# Altium schematic symbol library CRD25DA12N-FMC.SchLib: 111 symbols (part 1 of 4)
Pins are listed as number, name and electrical type; pins without a type are passive.

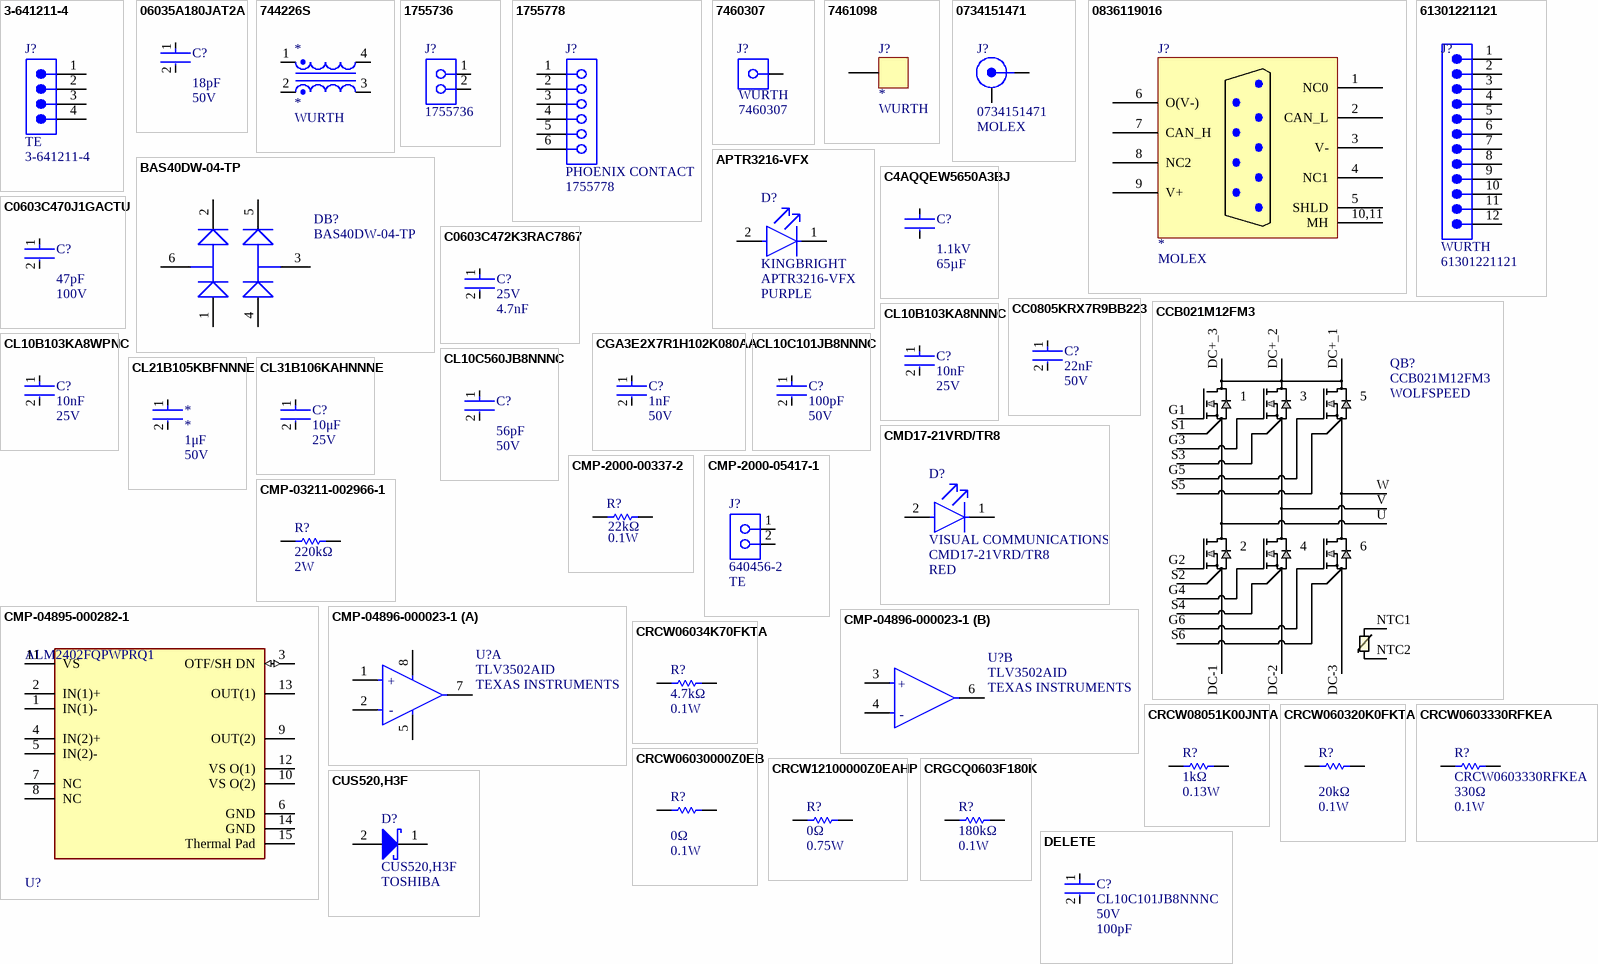
[diagram p0: symbols 3-641211-4 to DELETE]

## 3-641211-4
designator J?  Manufacturer: TE  (hidden comment: 3-641211-4)
Conn Unshrouded Header HDR 4 POS 2.54mm Solder ST Thru-Hole Package; Underplate Material: Nickel; Number of Positions: 4; Connector Type: Plug,Header,Pin; Connector System: Wire-to-Board; Contact Retention: No (Without); PCB Mount Retention: Without; Contact Current Rating: 5A; Voltage Rating (AC): 250V; Contact Resistance: 6mR; PCB Mounting Orientation: Vertical; Contact Style: Straight; Plating Thickness: 0.38um; Contact Post Length: 3.56mm; PCB Thickness: 0.063inch; Approvals: CSA; Supplier 1: Arrow Electronics; RoHS: Yes; Category: Connectors; Stock 1: 14; Pricing 1: 1=0.35860 (USD); Mount: Through Hole; Color: Natural; Housing Color: Natural; Housing Material: Polyester; Contact Plating: Gold,Tin,Matte; Contact Material: Copper Alloy; Contact Shape: Square; Min Operating Temperature: -67°C; Max Operating Temperature: 221°C; Package Quantity: 1; Number of Rows: 1; Packaging: Bulk; Termination: Solder; Number of Contacts: 4; Mating Alignment: No (Without); Mating Retention: No (Without); PCB Mount Alignment: No (Without); Sealable: No (Without); Strain Relief: No (Without); Series: MTA-100; Contact Type: Male Pin; Contact Gender: Male; Orientation: Straight; Backwall/Post Interruptions: No (Without); Shrouded: No (Without); Max Voltage Rating (AC): 250V; Current Rating: 5A; Voltage Rating: 250V; Length: 0.4inch; Height: 2.54mm; Pitch: 2.54mm; Depth: 5.08mm; Contact Mating Length: 7.49mm; Tail Length: 3.56mm; Radiation Hardening: No; Flammability Rating: UL94 V-0; RoHS Compliant: Yes; ELV: Compliant; ComponentLink1URL: https://datasheet.ciiva.com/9528/eng-ds-82056-mta-0608-9528409.pdf?src-supplier=Avnet; ComponentLink1Description: https://datasheet.ciiva.com/9528/eng-ds-82056-mta-0608-9528409.pdf?src-supplier=Avnet; ComponentLink2URL: https://datasheet.ciiva.com/728/eng-cd-641211-aa1-728545.pdf?src-supplier=Digi-Key; ComponentLink2Description: https://datasheet.ciiva.com/728/eng-cd-641211-aa1-728545.pdf?src-supplier=Digi-Key; Supplier Part Number 1: 3-641211-4; Manufacturer Part Number: 3-641211-4
footprint 3-641211-4 (Connector Header Through Hole 4 position 0.100" (2.54mm))
pins: 1, 2, 3, 4

## 06035A180JAT2A
designator C?  Capacitance: 18pF  Voltage Rating: 50V  (hidden comment: *)
CAP CER 18PF 50V C0G/NP0 0603; Manufacturer: KYOCERA AVX; Manufacturer Part Number: 06035A180JAT2A; Dielectric Material: Ceramic; Tolerance: 5%; Dielectric: C0G; Insulation Resistance: 100GR; Temperature Coefficient: 30ppm/°C; Supplier 1: Rs; RoHS: Yes; Category: Ceramic Capacitors; Stock 1: 1; Pricing 1: 4000=0.01900, 12000=0.01700 (USD); Mount: Surface Mount; Package: 0603; Number of Pins: 2; Case Code (Imperial): 0603; Case Code (Metric): 1608; Contact Plating: Tin,Matte; Min Operating Temperature: -55°C; Max Operating Temperature: 125°C; Packaging: Tape and Reel; Voltage Rating (DC): 50V; Series: -; Package Quantity: 1; Termination: SMD/SMT; Voltage: 50V; Length: 1.6mm; Width: 0.032inch; Height: 0.86mm; Thickness: 0.035inch; Depth: 0.81mm; Radiation Hardening: No; Reach SVHC Compliant: Yes; Lead Free: Lead Free; RoHS Compliant: Yes; ComponentLink1URL: https://datasheet.ciiva.com/1124/84496-1124722.pdf?src-supplier=Element14; ComponentLink1Description: https://datasheet.ciiva.com/1124/84496-1124722.pdf?src-supplier=Element14; ComponentLink2URL: https://datasheet.ciiva.com/22699/84496-22699967.pdf?src-supplier=Element14; ComponentLink2Description: https://datasheet.ciiva.com/22699/84496-22699967.pdf?src-supplier=Element14; ComponentLink3URL: https://datasheet.ciiva.com/7855/759117-7855062.pdf?src-supplier=Element14; ComponentLink3Description: https://datasheet.ciiva.com/7855/759117-7855062.pdf?src-supplier=Element14; ComponentLink4URL: https://datasheet.ciiva.com/7855/84496-7855222.pdf?src-supplier=Element14; ComponentLink4Description: https://datasheet.ciiva.com/7855/84496-7855222.pdf?src-supplier=Element14; ComponentLink5URL: https://datasheet.ciiva.com/150/ccog-150276.pdf?src-supplier=Digi-Key; ComponentLink5Description: https://datasheet.ciiva.com/150/ccog-150276.pdf?src-supplier=Digi-Key; ComponentLink6URL: https://datasheet.ciiva.com/150/ccog-150277.pdf?src-supplier=Digi-Key; ComponentLink6Description: https://datasheet.ciiva.com/150/ccog-150277.pdf?src-supplier=Digi-Key; Supplier Part Number 1: 1349617; Value: 18pF
footprint FP-C0603C-CF-IPC_B
pins: 1, 2

## 744226S
designator *  Manufacturer Print: WURTH
Common Mode Chokes Dual 10uH 920Ohm 1kHz 1.6A 80mOhm DCR SMD T/R; Manufacturer: WURTH ELECTRONIK; Manufacturer Part Number: 744226S; Tolerance: 30%; Voltage Rating: 80V; Resistance: 80mR; Impedance: 920R; Number of Lines: 2; Supplier 1: Rs; RoHS: Yes; Category: Common Mode Chokes; Stock 1: 1; Pricing 1: 1=2.59000, 25=2.28200, 100=2.10000, 250=1.94000, 500=1.81400 (USD); Mount: Surface Mount; Case/Package: SMD/SMT; Weight: 0.017672oz; Min Operating Temperature: -40°C; Max Operating Temperature: 125°C; Packaging: Tape and Reel; Package Quantity: 1; Series: WE-SL2; Termination: SMD/SMT; Current Rating: 1.6A; Inductance: 10uH; Current: 1.6A; DC Resistance (DCR): 80mR; Max DC Current: 1.6A; Test Frequency: 1kHz; Max Current Rating: 1.6A; Length: 9.2mm; Width: 6mm; Height: 0.205inch; Lead Free: Lead Free; RoHS Compliant: Yes; Reach SVHC Compliant: Yes; ComponentLink1URL: https://datasheet.ciiva.com/12378/744226s-67907-12378330.pdf?src-supplier=Mouser; ComponentLink1Description: https://datasheet.ciiva.com/12378/744226s-67907-12378330.pdf?src-supplier=Mouser; ComponentLink2URL: https://datasheet.ciiva.com/1008/744226s-1008438.pdf?src-supplier=Digi-Key; ComponentLink2Description: https://datasheet.ciiva.com/1008/744226s-1008438.pdf?src-supplier=Digi-Key; ComponentLink3URL: https://datasheet.ciiva.com/1126/1735584-1126949.pdf?src-supplier=Element14; ComponentLink3Description: https://datasheet.ciiva.com/1126/1735584-1126949.pdf?src-supplier=Element14; ComponentLink4URL: https://datasheet.ciiva.com/6868/1696373-6868167.pdf?src-supplier=Newark; ComponentLink4Description: https://datasheet.ciiva.com/6868/1696373-6868167.pdf?src-supplier=Newark; ComponentLink5URL: https://datasheet.ciiva.com/1008/744226s-1008439.pdf?src-supplier=Digi-Key; ComponentLink5Description: https://datasheet.ciiva.com/1008/744226s-1008439.pdf?src-supplier=Digi-Key; ComponentLink6URL: https://datasheet.ciiva.com/1008/744226s-1008440.pdf?src-supplier=Digi-Key; ComponentLink6Description: https://datasheet.ciiva.com/1008/744226s-1008440.pdf?src-supplier=Digi-Key; ComponentLink7URL: https://datasheet.ciiva.com/26308/744226s-eng-tds-26308764.pdf?src-supplier=Distrelec; ComponentLink7Description: https://datasheet.ciiva.com/26308/744226s-eng-tds-26308764.pdf?src-supplier=Distrelec; ComponentLink8URL: https://datasheet.ciiva.com/48691/001087362-da-01-ml-we-sl2-stromkomp-smd-line-filter-7-de-en-48691435.pdf?src-supplier=Conrad; ComponentLink8Description: https://datasheet.ciiva.com/48691/001087362-da-01-ml-we-sl2-stromkomp-smd-line-filter-7-de-en-48691435.pdf?src-supplier=Conrad; Supplier Part Number 1: 9040408
footprint WE-SL2 (SMD Inductor, 4-Leads, Body 6.3 x 9.5 mm)
pins: 1, 2, 3, 4

## 1755736
designator J?
Male Header, Pitch 5.08 mm, 1 x 2 Postion, Height 12 mm, Tail Length 3.9 mm, RoHS, Bulk; Manufacturer: Phoenix Contact; Content: 250pc(s); Pitch: 5.08mm; Industrial packaging: Yes; Number of contacts: 2; Manufacturer URL: http://www.phoenixcontact.com/; Datasheet Version: Apr-16; Datasheet URL: http://www.mouser.com/ds/2/324/ItemDetail_1755736-921028.pdf; Manufacturer part No.: 1755736; Type: MSTBVA2,5/2-G-5,08; Colour: Green; Supplier 1: Rs; Supplier Part Number 1: 1896199
footprint 1755736 (THD, 2-Leads, Body 12.16x8.6mm, Pitch 5.08mm)
pins: 1, 2

## 1755778
designator J?  Manufacturer: PHOENIX CONTACT  (hidden comment: 1755778)
TERM BLOCK HDR 6POS VERT 5.08MM; Voltage Rating: 250V; Current Rating: 12A; Number of Positions: 6; Number of Levels: 1; Voltage: 300V; Gender: Male; Connector Type: Plug; Approvals: UL,CSA,VDE,cULus,CB,EAC; Supplier 1: Rs; RoHS: Yes; Category: Terminal Blocks; Stock 1: 400; Mount: Through Hole; Contact Plating: Tin; Color: Green,Grey; Housing Color: Green; Housing Material: Polybutylene; Weight: 5.467464oz; Contact Material: Tin; Package Quantity: 50; Packaging: Bulk; Termination: Solder; Series: MSTBVA; Max Current Rating: 12A; Number of Positions Per Level: 6; Current: 12A; Number of Contacts: 6; Orientation: Straight; Voltage Rating (DC): 250V; Number of Rows: 1; Number of Poles: 6; Length: 32.48mm; Width: 32.48mm; Height: 15.9mm; Pitch: 5.08mm; Depth: 8.6mm; Lead Free: Lead Free; Flammability Rating: UL94 V-0; RoHS Compliant: Yes; ComponentLink1URL: https://datasheet.ciiva.com/16096/1755778-16096327.pdf?src-supplier=Onlinecomponents.com; ComponentLink1Description: https://datasheet.ciiva.com/16096/1755778-16096327.pdf?src-supplier=Onlinecomponents.com; ComponentLink2URL: https://datasheet.ciiva.com/15197/getdatasheetpartid-176346-15197318.pdf?src-supplier=Verical; ComponentLink2Description: https://datasheet.ciiva.com/15197/getdatasheetpartid-176346-15197318.pdf?src-supplier=Verical; ComponentLink3URL: https://datasheet.ciiva.com/796/1755778-796714.pdf?src-supplier=Digi-Key; ComponentLink3Description: https://datasheet.ciiva.com/796/1755778-796714.pdf?src-supplier=Digi-Key; ComponentLink4URL: https://datasheet.ciiva.com/29209/568561-da-01-en-grundgehaeuse-1755778-100-st-29209867.pdf?src-supplier=Conrad; ComponentLink4Description: https://datasheet.ciiva.com/29209/568561-da-01-en-grundgehaeuse-1755778-100-st-29209867.pdf?src-supplier=Conrad; ComponentLink5URL: https://datasheet.ciiva.com/18409/70054655-18409468.pdf?src-supplier=Allied+Electronics; ComponentLink5Description: https://datasheet.ciiva.com/18409/70054655-18409468.pdf?src-supplier=Allied+Electronics; Supplier Part Number 1: 1896240; Manufacturer Print: PHOENIX CONTACT; Value: N/A; Footprint: N/A; Manufacturer Part Number: 1755778
footprint 1755778 (TERM BLOCK HDR 6POS VERT 5.08MM)
pins: 1, 2, 3, 4, 5, 6

## 7460307
designator J?  Manufacturer Print: WURTH  (hidden comment: 7460307)
8 Pin Power Element; Copper Zinc Alloy; 160A; M4; Vertical; Manufacturer: Wurth Electronics; Current Rating: 80A; Number of Contacts: 8; Insulation: Non-Insulated; Supplier 1: Rs; RoHS: Yes; Category: Terminals; Stock 1: 1875; Mount: Through Hole; Number of Pins: 8; Contact Material: Copper; Contact Plating: Tin; Min Operating Temperature: -40°C; Max Operating Temperature: 135°C; Packaging: Bulk; Package Quantity: 250; Number of Rows: 2; Termination: Press-Fit; Series: REDCUBE WP-BUTR; Length: 9mm; Width: 9mm; Height: 10.5mm; Thread Size: M4; RoHS Compliant: Yes; ComponentLink1URL: https://datasheet.ciiva.com/8043/1736661-8043578.pdf?src-supplier=Element14; ComponentLink1Description: https://datasheet.ciiva.com/8043/1736661-8043578.pdf?src-supplier=Element14; ComponentLink2URL: https://datasheet.ciiva.com/13538/powerelements20with20220row20pin20plate-13538549.pdf?src-supplier=Mouser; ComponentLink2Description: https://datasheet.ciiva.com/13538/powerelements20with20220row20pin20plate-13538549.pdf?src-supplier=Mouser; ComponentLink3URL: https://datasheet.ciiva.com/23814/606286-23814304.pdf?src-supplier=Newark; ComponentLink3Description: https://datasheet.ciiva.com/23814/606286-23814304.pdf?src-supplier=Newark; ComponentLink4URL: https://datasheet.ciiva.com/847/bushes-847081.pdf?src-supplier=Digi-Key; ComponentLink4Description: https://datasheet.ciiva.com/847/bushes-847081.pdf?src-supplier=Digi-Key; Supplier Part Number 1: 1224952; Manufacturer Part Number: 7460307
footprint 7460307 (8 Pin Screw Terminal, Power Tap M4 Through Hole)
pins: 1,2,3,4,5,6,7,8

## 7461098
designator J?  Manufacturer Print: WURTH
Conn Terminal M 1 POS Press Fit ST 25 Terminal 1 Port; Manufacturer: Wurth Electronics; Manufacturer Part Number: 7461098; Current Rating: 250A; Number of Contacts: 25; Insulation: Non-Insulated; Thread Size: M6; Supplier 1: Digi-Key; RoHS: Yes; Category: Terminals; Stock 1: 16977; Pricing 1: 1=4.15000, 10=3.83800, 50=3.49000, 150=3.17100, 500=2.75800 (USD); Mount: Through Hole; Number of Pins: 25; Contact Plating: Tin; Contact Material: Copper; Min Operating Temperature: -40°C; Max Operating Temperature: 135°C; Package Quantity: 150; Packaging: Bulk; Termination: Press-Fit; Series: REDCUBE WP-SHFU; Length: 13mm; Width: 13mm; Height: 19mm; RoHS Compliant: Yes; ComponentLink1URL: https://datasheet.ciiva.com/8043/1736697-8043583.pdf?src-supplier=Element14; ComponentLink1Description: https://datasheet.ciiva.com/8043/1736697-8043583.pdf?src-supplier=Element14; ComponentLink2URL: https://datasheet.ciiva.com/847/bushes-shanks-847041.pdf?src-supplier=Digi-Key; ComponentLink2Description: https://datasheet.ciiva.com/847/bushes-shanks-847041.pdf?src-supplier=Digi-Key; ComponentLink3URL: https://datasheet.ciiva.com/23814/606308-23814318.pdf?src-supplier=Newark; ComponentLink3Description: https://datasheet.ciiva.com/23814/606308-23814318.pdf?src-supplier=Newark; ComponentLink4URL: https://datasheet.ciiva.com/48700/001088120-da-01-en-gewindestifte-wp-shfu-7461098-48700902.pdf?src-supplier=Conrad; ComponentLink4Description: https://datasheet.ciiva.com/48700/001088120-da-01-en-gewindestifte-wp-shfu-7461098-48700902.pdf?src-supplier=Conrad; Supplier Part Number 1: 732-3278-ND
footprint 7461098
pins: 1,2,3,4,5,6,7,8,9,10,11,12,13,14,15,16,17,18,19,20,21,22,23,24,25 PIN

## 0734151471
designator J?  Manufacturer Print: MOLEX
Conn.; RF/Coaxial; MMCX; Jack; Vertical; PCB; 50 Ohms; Rt. Angle; Gold Plate; Manufacturer Part Number: 73415-1471; Body Material: Brass; Impedance: 50R; Connector Type: PCB,MMCX,Coaxial; Max Frequency: 6GHz; Gender: Female; Supplier 1: Allied Electronics; Manufacturer: Molex; RoHS: Yes; Category: RF / Coaxial Connectors; Stock 1: 18; Pricing 1: 1=2.94000, 5=2.79000, 100=2.65000 (USD); Mount: Through Hole; Contact Material: Copper; Contact Plating: Gold; Body Plating: Gold; Insulation Material: Teflon; Plating: Gold; Packaging: Bulk; Package Quantity: 500; Termination: Solder; Orientation: Straight; Series: 73415; Operating Frequency: N/A; Length: 3.51mm; Depth: 3.51mm; Radiation Hardening: No; RoHS Compliant: Yes; Lead Free: Lead Free; Halogen Free: Low Halogen; Supplier Part Number 1: 70364031
footprint FP-73415-1471-MFG
pins: 1 CENTER, 2,3,4,5 SHIELD

## 0836119016
designator J?  Manufacturer Print: MOLEX
1.27mm Pitch Commercial Micro-D, PCB Mount, Right-Angle Plug, without Jackposts, 9 Circuits; Manufacturer Part Number: 0836119016; Number of Terminals/Pins: 9; Current Rating: 1A; Number of Ports: 1; Max Voltage Rating (AC): 350V; Supplier 1: Avnet; Manufacturer: Molex; RoHS: Yes; Category: Uncategorized; Stock 1: 23; Pricing 1: 1=6.94318, 10=6.82515, 30=6.70711, 50=6.55089, 100=6.49187 (USD); Mount: Through Hole,Panel; Contact Material: Copper; Contact Plating: Gold; Housing Material: Polymer; Min Operating Temperature: -40°C; Max Operating Temperature: 125°C; Packaging: Rail/Tube; Connector Type: Plug; Number of Positions: 9; Termination: Solder; Orientation: Right Angle; Series: Commercial Micro-D Series 83611; Package Quantity: 156; Number of Rows: 2; Max Supply Voltage (AC): 350V; Features: Shielded; Contact Type: Signal; Length: 19.93mm; Pitch: 1.27mm; Depth: 17.22mm; Radiation Hardening: No; RoHS Compliant: Yes; ComponentLink1URL: https://datasheet.ciiva.com/657/836119016-sd-657392.pdf?src-supplier=Digi-Key; ComponentLink1Description: https://datasheet.ciiva.com/657/836119016-sd-657392.pdf?src-supplier=Digi-Key; ComponentLink2URL: https://datasheet.ciiva.com/15177/getdatasheetpartid-195189-15177875.pdf?src-supplier=Verical; ComponentLink2Description: https://datasheet.ciiva.com/15177/getdatasheetpartid-195189-15177875.pdf?src-supplier=Verical; Supplier Part Number 1: 0836119016
footprint 836119016
pins: 1 NC0, 2 CAN_L, 3 V-, 4 NC1, 5 SHLD, 6 O(V-), 7 CAN_H, 8 NC2, 9 V+, 10,11 MH

## 61301221121
designator J?  Manufacturer Print: WURTH  (hidden comment: 61301221121)
CONN HEADER VERT 12POS 2.54MM; Manufacturer: WURTH ELEKTRONIK; Number of Positions: 12; Gender: Male; Voltage Rating: 250V; Pitch: 0.1inch; Supplier 1: Digi-Key; RoHS: Yes; Category: Headers and Wire Housings; Stock 1: 5429; Pricing 1: 1=0.83000, 10=0.70700, 25=0.58920, 50=0.49100, 100=0.44700, 1000=0.40600 (USD); Mount: Through Hole; Contact Plating: Gold; Contact Material: Copper Alloy,Copper; Color: Black; Contact Shape: Square; Contact Finish - Mating: GOLD; Insulation Material: Nylon; Insulation Color: Black; Min Operating Temperature: -40°C; Max Operating Temperature: 105°C; Number of Rows: 2; Packaging: Bulk; Termination: Solder; Number of Contacts: 12; Connector Type: Header; Fastening Type: Pull; Series: WR-PHD; Contact Type: Male Pin; Row Spacing: 0.1inch; Contact Mating Length: 0.236inch; RoHS Compliant: Yes; Flammability Rating: UL94 V-0; ComponentLink1URL: http://www.farnell.com/datasheets/1442180.pdf?src-supplier=Farnell; ComponentLink1Description: http://www.farnell.com/datasheets/1442180.pdf?src-supplier=Farnell; ComponentLink2URL: http://www.farnell.com/datasheets/1442180.pdf?src-supplier=Newark; ComponentLink2Description: http://www.farnell.com/datasheets/1442180.pdf?src-supplier=Newark; ComponentLink3URL: http://www.farnell.com/datasheets/1442180.pdf?src-supplier=Element14; ComponentLink3Description: http://www.farnell.com/datasheets/1442180.pdf?src-supplier=Element14; ComponentLink4URL: https://katalog.we-online.de/em/datasheet/6130xx21121.pdf?src-supplier=Digi-Key; ComponentLink4Description: https://katalog.we-online.de/em/datasheet/6130xx21121.pdf?src-supplier=Digi-Key; Supplier Part Number 1: 732-5297-ND; Package: N/A; Value: N/A; Manufacturer Part Number: 61301221121
footprint FP-61301221121-MFG
pins: 1, 2, 3, 4, 5, 6, 7, 8, 9, 10, 11, 12

## APTR3216-VFX
designator D?  Manufacturer Print: KINGBRIGHT  Manufacturer Part Number: APTR3216-VFX  Color: PURPLE  (hidden comment: *)
3.2X1.6MM Purple SMD Led (X=0.19, Y=0.05), Rohs; Supplier 1: Mouser; Manufacturer: Kingbright; RoHS: Yes; Category: LEDs; Stock 1: 19947; Pricing 1: 1=0.84000, 10=0.55000, 50=0.55000, 100=0.36100, 1000=0.28500, 10000=0.25200 (USD); RoHS Compliant: Yes; Supplier Part Number 1: 604-APTR3216-VFX
footprint FP-APTR3216SECK-MFG
pins: 1 C, 2 A

## BAS40DW-04-TP
designator DB?
Schottky Diode; Manufacturer_Name: Micro Commercial Components (MCC); Class: DIO; Height: 1.2mm; Manufacturer_Part_Number: BAS40DW-04-TP
footprint SOT65P222X120-6N
pins: 1 A1, 2 C1, 3 AC2, 4 A2, 5 C2, 6 AC1

## C4AQQEW5650A3BJ
designator C?  Voltage: 1.1kV  Capacitance: 65µF  (hidden comment: *)
CAP FILM 65UF 5% 1.1KVDC RAD; Manufacturer: KEMET; Manufacturer Part Number: C4AQQEW5650A3BJ; Value: 65µF; Supplier 1: Digi-Key; RoHS: Yes; Category: Film Capacitors; Stock 1: 1080; Pricing 1: 1=19.26000, 10=18.24800, 50=15.71360, 100=14.69980, 500=13.17910 (USD); RoHS Compliant: No; Supplier Part Number 1: 399-C4AQQEW5650A3BJ-ND; Package: RADIAL
footprint C4AQQEW5650A3BJ (CAP FILM 65UF 5% 1.1KVDC RAD)
pins: 1,2 +, 3,4 2

## C0603C470J1GACTU
designator C?  Capacitance: 47pF  Voltage Rating (DC): 100V  (hidden comment: *)
0603 C 47pF Ceramic Multilayer Capacitor; 100 V; +125degC; C0G Dielectric; +/-5%; Manufacturer: KEMET; Manufacturer Part Number: C0603C470J1GACTU; Tolerance: 5%; Temperature Coefficient: 30ppm/°C; Dissipation Factor: 0.1%; Supplier 1: Rs; RoHS: Yes; Category: Ceramic Capacitors; Stock 1: 1; Pricing 1: 100=0.04300, 1000=0.03200, 2000=0.02200, 4000=0.02100, 8000=0.02000 (USD); Mount: Surface Mount,PCB; Case/Package: 0603; Number of Pins: 2; Case Code (Imperial): 0603; Case Code (Metric): 1608; Dielectric Material: Ceramic; Min Operating Temperature: -55°C; Max Operating Temperature: 125°C; Package Quantity: 4000; Voltage Rating: 100V; Packaging: Tape and Reel; Dielectric: C0G; Termination: SMD/SMT; Voltage: 100V; Series: C; Construction: Flat; Length: 1.6mm; Width: 0.031inch; Height: 0.8mm; Lead Pitch: 0.7mm; Thickness: 0.034inch; Depth: 0.8mm; Radiation Hardening: No; Reach SVHC Compliant: Yes; Lead Free: Lead Free; RoHS Compliant: Yes; ComponentLink1URL: https://datasheet.ciiva.com/28668/1789732-28668693.pdf?src-supplier=Element14; ComponentLink1Description: https://datasheet.ciiva.com/28668/1789732-28668693.pdf?src-supplier=Element14; Supplier Part Number 1: 8015369
footprint FP-C0603C-CF-IPC_B
pins: 1, 2

## C0603C472K3RAC7867
designator C?  Voltage Rating: 25V  Capacitance: 4.7nF  (hidden comment: *)
CAP CER 4700PF 25V 10% X7R 0603; Manufacturer: KEMET; Manufacturer Part Number: C0603C472K3RACTU; Dielectric Material: Ceramic; Value: 4.7nF; Supplier 1: Newark; RoHS: Yes; Category: Ceramic Capacitors; Stock 1: 8000; Pricing 1: 1=0.04800, 4000=0.04800 (USD); Mount: Surface Mount; Package: 0603; Case Code (Metric): 1608; Case Code (Imperial): 0603; Min Operating Temperature: -55°C; Max Operating Temperature: 125°C; Tolerance: 10%; Dielectric: X7R; Packaging: Tape and Reel; Package Quantity: 1; Voltage Rating (DC): 25V; Termination: SMD/SMT; Dissipation Factor: 10%; Series: C; Construction: Flat; Length: 1.6mm; Width: 0.031inch; Height: 0.8mm; Thickness: 0.034inch; Lead Pitch: 0.7mm; Depth: 0.8mm; Radiation Hardening: No; Reach SVHC Compliant: Yes; RoHS Compliant: Yes; ComponentLink1URL: https://datasheet.ciiva.com/5414/kem-c1002-x7r-smd-357932-5414293.pdf?src-supplier=Mouser; ComponentLink1Description: https://datasheet.ciiva.com/5414/kem-c1002-x7r-smd-357932-5414293.pdf?src-supplier=Mouser; Supplier Part Number 1: 67AH9250
footprint FP-C0603C-CF-IPC_B
pins: 1, 2

## CC0805KRX7R9BB223
designator C?  Capacitance: 22nF  Voltage: 50V  (hidden comment: *)
CAP CER 0.022UF 50V X7R 0805; Manufacturer: YAGEO; Manufacturer Part Number: CC0805KRX7R9BB223; Material: Ceramic; Tolerance: 10%; Insulation Resistance: 100GR; Value: 22nF; Supplier 1: Future Electronics; RoHS: Yes; Category: Ceramic Capacitors; Stock 1: 1604000; Pricing 1: 4000=0.00800, 16000=0.00760, 60000=0.00730, 100000=0.00710, 200000=0.00670 (USD); Mount: Surface Mount; Package: 0805; Number of Pins: 2; Case Code (Metric): 2012; Case Code (Imperial): 0805; Dielectric Material: Ceramic; Min Operating Temperature: -55°C; Max Operating Temperature: 125°C; Dielectric: X7R; Voltage Rating: 50V; Packaging: Tape and Reel; Voltage Rating (DC): 50V; Package Quantity: 1; Termination: SMD/SMT; Resistor Type: Ceramic; Series: CC; Length: 2mm; Width: 1.25mm; Height: 0.6mm; Depth: 1.25mm; Thickness: 0.024inch; Radiation Hardening: No; RoHS Compliant: Yes; Reach SVHC Compliant: Yes; Lead Free: Lead Free; Halogen Free: Halogen Free; ComponentLink1URL: https://datasheet.ciiva.com/33738/70765-33738014.pdf?src-supplier=Farnell; ComponentLink1Description: https://datasheet.ciiva.com/33738/70765-33738014.pdf?src-supplier=Farnell; ComponentLink2URL: https://datasheet.ciiva.com/46393/1489800-46393306.pdf?src-supplier=Element14; ComponentLink2Description: https://datasheet.ciiva.com/46393/1489800-46393306.pdf?src-supplier=Element14; ComponentLink3URL: https://datasheet.ciiva.com/7978/1489800-7978213.pdf?src-supplier=Element14; ComponentLink3Description: https://datasheet.ciiva.com/7978/1489800-7978213.pdf?src-supplier=Element14; ComponentLink4URL: https://datasheet.ciiva.com/28450/1489800-28450821.pdf?src-supplier=Element14; ComponentLink4Description: https://datasheet.ciiva.com/28450/1489800-28450821.pdf?src-supplier=Element14; ComponentLink5URL: https://datasheet.ciiva.com/144/mlccorderingcode-144788.pdf?src-supplier=Digi-Key; ComponentLink5Description: https://datasheet.ciiva.com/144/mlccorderingcode-144788.pdf?src-supplier=Digi-Key; ComponentLink6URL: https://datasheet.ciiva.com/144/mlccorderingcode-144787.pdf?src-supplier=Digi-Key; ComponentLink6Description: https://datasheet.ciiva.com/144/mlccorderingcode-144787.pdf?src-supplier=Digi-Key; ComponentLink7URL: https://datasheet.ciiva.com/144/mlccorderingcode-144789.pdf?src-supplier=Digi-Key; ComponentLink7Description: https://datasheet.ciiva.com/144/mlccorderingcode-144789.pdf?src-supplier=Digi-Key; ComponentLink8URL: https://datasheet.ciiva.com/46392/1489800-46392565.pdf?src-supplier=Element14; ComponentLink8Description: https://datasheet.ciiva.com/46392/1489800-46392565.pdf?src-supplier=Element14; ComponentLink9URL: https://datasheet.ciiva.com/11464/upy-gphc-x7r-6-3v-to-50v-8-11464758.pdf?src-supplier=Avnet; ComponentLink9Description: https://datasheet.ciiva.com/11464/upy-gphc-x7r-6-3v-to-50v-8-11464758.pdf?src-supplier=Avnet; ComponentLink10URL: https://datasheet.ciiva.com/15189/getdatasheetpartid-343434-15189228.pdf?src-supplier=Verical; ComponentLink10Description: https://datasheet.ciiva.com/15189/getdatasheetpartid-343434-15189228.pdf?src-supplier=Verical; ComponentLink11URL: https://datasheet.ciiva.com/29242/445416-da-01-en-kerko-chip-0805-x7r-0-022uf-10proz50vg-29242108.pdf?src-supplier=Conrad; ComponentLink11Description: https://datasheet.ciiva.com/29242/445416-da-01-en-kerko-chip-0805-x7r-0-022uf-10proz50vg-29242108.pdf?src-supplier=Conrad; Supplier Part Number 1: 2104784
footprint FP-C0603C-CF-IPC_B
pins: 1, 2

## CCB021M12FM3
designator QB?  Manufacturer Print: WOLFSPEED
1200V silicon carbide six-pack power module delivering maximum power density; Mfr_Name: Cree Wolfspeed; Copyright: Copyright (C) 2021 Ultra Librarian. All rights reserved.; Manufacturer_Part_Number: CCB021M12FM3; RefDes: RefDes; Type: DEV; Supplier 1: Arrow Electronics; Manufacturer: Cree Wolfspeed; Manufacturer Part Number: CCB021M12FM3; RoHS: No; Category: MOSFETs; Stock 1: 52; Pricing 1: 1=248.05500, 10=245.57100, 25=243.75400, 50=241.29300, 100=238.84350, 500=236.39400 (USD); Supplier Part Number 1: CCB021M12FM3
footprint FM3_SIX-PACK_3PHASE_CRW
pins: DC+_1, DC+_2, DC+_3, DC-1, DC-2, DC-3, G1, G2, G3, G4, G5, G6, NTC1, NTC2, S1, S2, S3, S4, S5, S6, U, V, W
text: 1; 3; 5; 2; 4; 6

## CGA3E2X7R1H102K080AA
designator C?  Capacitance: 1nF  Voltage Rating: 50V  (hidden comment: *)
CAP CER 1000PF 50V X7R 0603; Manufacturer: TDK; Manufacturer Part Number: CGA3E2X7R1H102K080AA; Tolerance: 10%; Value: 1nF; Supplier 1: Newark; RoHS: Yes; Category: Ceramic Capacitors; Stock 1: 128000; Pricing 1: 1=0.01100, 4000=0.01000, 8000=0.00900 (USD); Mount: Surface Mount; Package: 0603; Case Code (Metric): 1608; Case Code (Imperial): 0603; Weight: 7.1E-05oz; Min Operating Temperature: -55°C; Max Operating Temperature: 125°C; Packaging: Tape and Reel; Dielectric: X7R; Termination: SMD/SMT; Series: CGA; Voltage Rating (DC): 50V; Package Quantity: 1; Resistor Type: Ceramic; Length: 1.6mm; Width: 0.031inch; Height: 0.8mm; Depth: 0.8mm; Thickness: 0.035inch; Ratings: AEC-Q200; RoHS Compliant: Yes; Reach SVHC Compliant: Yes; Lead Free: Lead Free; ComponentLink1URL: https://datasheet.ciiva.com/24216/cga3e2x7r1h102k080aa-265935-24216863.pdf?src-supplier=Mouser; ComponentLink1Description: https://datasheet.ciiva.com/24216/cga3e2x7r1h102k080aa-265935-24216863.pdf?src-supplier=Mouser; ComponentLink2URL: https://datasheet.ciiva.com/46424/1839935-46424223.pdf?src-supplier=Element14; ComponentLink2Description: https://datasheet.ciiva.com/46424/1839935-46424223.pdf?src-supplier=Element14; Supplier Part Number 1: 40Y2251
footprint FP-C0603C-CF-IPC_B
pins: 1, 2

## CL10B103KA8NNNC
designator C?  Capacitance: 10nF  Voltage Rating: 25V  (hidden comment: *)
CAP CER 10000PF 25V X7R 0603; Manufacturer: SAMSUNG; Manufacturer Part Number: CL10B103KA8NNNC; Tolerance: 10%; Voltage: 50V; Value: 10nF; Supplier 1: Arrow Electronics; RoHS: Yes; Category: Ceramic Capacitors; Stock 1: 3648000; Pricing 1: 4000=0.00720, 8000=0.00650, 12000=0.00600, 28000=0.00580 (USD); Mount: Surface Mount; Package: 0603; Case Code (Metric): 1608; Case Code (Imperial): 0603; Contact Plating: Tin; Min Operating Temperature: -55°C; Max Operating Temperature: 125°C; Package Quantity: 4000; Packaging: Tape and Reel; Dielectric: X7R; Series: CL; Construction: Flat; Length: 1.6mm; Width: 0.031inch; Height: 0.8mm; Thickness: 0.035inch; Depth: 0.8mm; Radiation Hardening: No; RoHS Compliant: Yes; ComponentLink1URL: https://datasheet.ciiva.com/25805/cl10b103ka8nnnc-25805633.pdf?src-supplier=Digi-Key; ComponentLink1Description: https://datasheet.ciiva.com/25805/cl10b103ka8nnnc-25805633.pdf?src-supplier=Digi-Key; ComponentLink2URL: https://datasheet.ciiva.com/16311/cl10b103ka8nnnc-16311530.pdf?src-supplier=Future+Electronics; ComponentLink2Description: https://datasheet.ciiva.com/16311/cl10b103ka8nnnc-16311530.pdf?src-supplier=Future+Electronics; ComponentLink3URL: https://datasheet.ciiva.com/15227/getdatasheetpartid-571675-15227194.pdf?src-supplier=Verical; ComponentLink3Description: https://datasheet.ciiva.com/15227/getdatasheetpartid-571675-15227194.pdf?src-supplier=Verical; Supplier Part Number 1: CL10B103KA8NNNC
footprint FP-C0603C-CF-IPC_B
pins: 1, 2

## CL10B103KA8WPNC
designator C?  value 10nF  Voltage Rating: 25V  (hidden comment: *)
CAP CER 10000PF 25V X7R 0603; Manufacturer: SAMSUNG; Manufacturer Part Number: CL10B103KA8WPNC; Tolerance: 10%; Supplier 1: Arrow Electronics; RoHS: Yes; Category: Ceramic Capacitors; Stock 1: 144000; Pricing 1: 4000=0.00760, 8000=0.00670, 28000=0.00660, 100000=0.00500 (USD); Mount: Surface Mount; Package: 0603; Case Code (Metric): 1608; Case Code (Imperial): 0603; Min Operating Temperature: -55°C; Max Operating Temperature: 125°C; Packaging: Tape and Reel; Capacitance: 10nF; Features: Soft Termination; Length: 0.063inch; Width: 0.031inch; Thickness: 0.035inch; Ratings: AEC-Q200; RoHS Compliant: Yes; ComponentLink1URL: http://www.samsungsem.com/kr/support/product-search/mlcc/CL10B103KA8WPNC.jsp?src-supplier=Digi-Key; ComponentLink1Description: http://www.samsungsem.com/kr/support/product-search/mlcc/CL10B103KA8WPNC.jsp?src-supplier=Digi-Key; ComponentLink2URL: http://www.samsungsem.com/kr/support/library/product-catalog/mlcc.jsp?src-supplier=Digi-Key; ComponentLink2Description: http://www.samsungsem.com/kr/support/library/product-catalog/mlcc.jsp?src-supplier=Digi-Key; ComponentLink3URL: http://www.samsungsem.com/servlet/FileDownload?filename=productcatalog/pdf/MLCC.pdf&src-supplier=Avnet; ComponentLink3Description: http://www.samsungsem.com/servlet/FileDownload?filename=productcatalog/pdf/MLCC.pdf&src-supplier=Avnet; Supplier Part Number 1: CL10B103KA8WPNC
footprint FP-C0603C-CF-IPC_B
pins: 1, 2

## CL10C101JB8NNNC
designator C?  Capacitance: 100pF  Voltage: 50V  (hidden comment: *)
CAP CER 100PF 50V C0G/NP0 0603; Manufacturer: SAMSUNG; Manufacturer Part Number: CL10C101JB8NNNC; Material: Ceramic; Tolerance: 5%; Dielectric: C0G; Temperature Coefficient: 300ppm/°C; Supplier 1: Rs; RoHS: Yes; Category: Ceramic Capacitors; Stock 1: 488000; Mount: Surface Mount; Package: 0603; Case Code (Metric): 1608; Case Code (Imperial): 0603; Contact Plating: Tin; Min Operating Temperature: -55°C; Max Operating Temperature: 125°C; Voltage Rating (DC): 50V; Packaging: Tape and Reel; Package Quantity: 1; Voltage Rating: 50V; Series: CL; Construction: Flat; Length: 1.6mm; Width: 0.031inch; Height: 0.8mm; Depth: 0.8mm; Thickness: 0.035inch; Radiation Hardening: No; Lead Free: Lead Free; RoHS Compliant: Yes; ComponentLink1URL: https://datasheet.ciiva.com/25782/cl10c101jb8nnnc-25782145.pdf?src-supplier=Digi-Key; ComponentLink1Description: https://datasheet.ciiva.com/25782/cl10c101jb8nnnc-25782145.pdf?src-supplier=Digi-Key; ComponentLink2URL: https://datasheet.ciiva.com/26838/getdatasheetpartid-358356-26838483.pdf?src-supplier=Verical; ComponentLink2Description: https://datasheet.ciiva.com/26838/getdatasheetpartid-358356-26838483.pdf?src-supplier=Verical; ComponentLink3URL: https://datasheet.ciiva.com/29199/456574-da-01-en-vs-kondensator-0603-29199002.pdf?src-supplier=Conrad; ComponentLink3Description: https://datasheet.ciiva.com/29199/456574-da-01-en-vs-kondensator-0603-29199002.pdf?src-supplier=Conrad; ComponentLink4URL: https://datasheet.ciiva.com/26310/mlcc-catalogdownload2013-eng-26310303.pdf?src-supplier=Distrelec; ComponentLink4Description: https://datasheet.ciiva.com/26310/mlcc-catalogdownload2013-eng-26310303.pdf?src-supplier=Distrelec; Supplier Part Number 1: 7665130; Value: 100pF
footprint FP-C0603C-CF-IPC_B
pins: 1, 2

## CL10C560JB8NNNC
designator C?  Capacitance: 56pF  Voltage Rating: 50V  (hidden comment: CL10C560JB8NNNC)
CAP CER 56PF 50V C0G/NP0 0603; Manufacturer: SAMSUNG; Material: Ceramic; Tolerance: 5%; Dielectric: C0G; Temperature Coefficient: 30ppm/°C; Supplier 1: Arrow Electronics; Manufacturer Part Number: CL10C560JB8NNNC; RoHS: Yes; Category: Ceramic Capacitors; Stock 1: 60182; Pricing 1: 1=0.05960, 10=0.01370, 25=0.01360, 100=0.01080, 250=0.01070, 500=0.00740, 1000=0.00590, 3000=0.00560, 6000=0.00530, 15000=0.00500, 30000=0.00470 (USD); Mount: Surface Mount; Package: 0603; Case Code (Metric): 1608; Case Code (Imperial): 0603; Min Operating Temperature: -55°C; Max Operating Temperature: 125°C; Packaging: Tape and Reel; Package Quantity: 1; Voltage: 50V; Voltage Rating (DC): 50V; Series: CL; Construction: Flat; Termination: SMD/SMT; Length: 1.6mm; Width: 0.031inch; Height: 0.8mm; Thickness: 0.035inch; Depth: 0.8mm; Radiation Hardening: No; Lead Free: Lead Free; RoHS Compliant: Yes; ComponentLink1URL: https://datasheet.ciiva.com/25803/cl10c560jb8nnnc-25803592.pdf?src-supplier=Digi-Key; ComponentLink1Description: https://datasheet.ciiva.com/25803/cl10c560jb8nnnc-25803592.pdf?src-supplier=Digi-Key; ComponentLink2URL: https://datasheet.ciiva.com/26838/getdatasheetpartid-640760-26838546.pdf?src-supplier=Verical; ComponentLink2Description: https://datasheet.ciiva.com/26838/getdatasheetpartid-640760-26838546.pdf?src-supplier=Verical; ComponentLink3URL: https://datasheet.ciiva.com/29198/456837-da-01-en-vs-kondensator-0603-29198873.pdf?src-supplier=Conrad; ComponentLink3Description: https://datasheet.ciiva.com/29198/456837-da-01-en-vs-kondensator-0603-29198873.pdf?src-supplier=Conrad; ComponentLink4URL: https://datasheet.ciiva.com/48428/mlcc-catalogdownload2013-eng-48428598.pdf?src-supplier=Distrelec; ComponentLink4Description: https://datasheet.ciiva.com/48428/mlcc-catalogdownload2013-eng-48428598.pdf?src-supplier=Distrelec; ComponentLink5URL: https://datasheet.ciiva.com/16449/cl05b104kq5nnnc-16449527.pdf?src-supplier=Future+Electronics; ComponentLink5Description: https://datasheet.ciiva.com/16449/cl05b104kq5nnnc-16449527.pdf?src-supplier=Future+Electronics; Supplier Part Number 1: CL10C560JB8NNNC; Value: 56pF
footprint FP-C0603C-CF-IPC_B
pins: 1, 2
1 alternate drawing of the same symbol

## CL21B105KBFNNNE
designator *  Capacitance: 1μF  Voltage: 50V
CAP CER 1UF 50V X7R 0805; Manufacturer: Samsung; Manufacturer Part Number: CL21B105KBFNNNE; Tolerance: 10%; Supplier 1: Newark; RoHS: Yes; Category: Ceramic Capacitors; Stock 1: 42000; Pricing 1: 1=0.01000, 2000=0.01000, 4000=0.01000 (USD); Mount: Surface Mount; Case/Package: 0805; Case Code (Metric): 2012; Case Code (Imperial): 0805; Min Operating Temperature: -55°C; Max Operating Temperature: 125°C; Packaging: Tape and Reel; Package Quantity: 1; Voltage Rating: 50V; Dielectric: X7R; Series: CL; Construction: Flat; Length: 2mm; Width: 0.049inch; Height: 1.25mm; Thickness: 0.053inch; Depth: 1.25mm; Radiation Hardening: No; RoHS Compliant: Yes; ComponentLink1URL: https://datasheet.ciiva.com/25800/cl21b105kbfnnne-25800291.pdf?src-supplier=Digi-Key; ComponentLink1Description: https://datasheet.ciiva.com/25800/cl21b105kbfnnne-25800291.pdf?src-supplier=Digi-Key; ComponentLink2URL: https://datasheet.ciiva.com/16449/cl21b105kbfnnne-16449003.pdf?src-supplier=Future+Electronics; ComponentLink2Description: https://datasheet.ciiva.com/16449/cl21b105kbfnnne-16449003.pdf?src-supplier=Future+Electronics; ComponentLink3URL: https://datasheet.ciiva.com/26838/getdatasheetpartid-354075-26838668.pdf?src-supplier=Verical; ComponentLink3Description: https://datasheet.ciiva.com/26838/getdatasheetpartid-354075-26838668.pdf?src-supplier=Verical; Supplier Part Number 1: 82AC9436
footprint FP-CL21-IPC_A
footprint FP-CL21-IPC_B
footprint FP-CL21-IPC_C
pins: 1, 2

## CL31B106KAHNNNE
designator C?  Capacitance: 10μF  Voltage: 25V  (hidden comment: CL31B106KAHNNNE)
CAP CER 10UF 25V X7R 1206; Manufacturer: SAMSUNG; Tolerance: 10%; Value: 10μF; Supplier 1: Rs; Manufacturer Part Number: CL31B106KAHNNNE; RoHS: Yes; Category: Ceramic Capacitors; Stock 1: 384000; Mount: Surface Mount; Package: 1206; Case Code (Metric): 3216; Case Code (Imperial): 1206; Min Operating Temperature: -55°C; Max Operating Temperature: 125°C; Dielectric: X7R; Packaging: Tape and Reel; Voltage Rating: 25V; Package Quantity: 1; Series: CL; Construction: Flat; Length: 3.2mm; Width: 0.063inch; Height: 1.6mm; Thickness: 0.071inch; Depth: 1.6mm; Radiation Hardening: No; RoHS Compliant: Yes; ComponentLink1URL: https://datasheet.ciiva.com/25795/cl31b106kahnnne-25795260.pdf?src-supplier=Digi-Key; ComponentLink1Description: https://datasheet.ciiva.com/25795/cl31b106kahnnne-25795260.pdf?src-supplier=Digi-Key; ComponentLink2URL: https://datasheet.ciiva.com/26838/getdatasheetpartid-356415-26838914.pdf?src-supplier=Verical; ComponentLink2Description: https://datasheet.ciiva.com/26838/getdatasheetpartid-356415-26838914.pdf?src-supplier=Verical; ComponentLink3URL: https://datasheet.ciiva.com/16498/cl03a105mq3csnc-16498474.pdf?src-supplier=Future+Electronics; ComponentLink3Description: https://datasheet.ciiva.com/16498/cl03a105mq3csnc-16498474.pdf?src-supplier=Future+Electronics; Supplier Part Number 1: 7666773
footprint FP-CL31-IPC_A
footprint FP-CL31-IPC_B
footprint FP-CL31-IPC_C
pins: 1, 2

## CMD17-21VRD/TR8
designator D?  value RED  Manufacturer: VISUAL COMMUNICATIONS  Manufacturer Part Number: CMD17-21VRD/TR8  (hidden comment: *)
LED RED DIFFUSED 0805 SMD; Power Rating: 100mW; Luminous Intensity: 6mcd; Viewing Angle: 140°; Lens Style: Diffused,Tinted,Rectangular,Colored; Forward Current: 20mA; Forward Voltage: 2V; Wavelength: 640nm; Reverse Voltage (DC): 5V; Number of LEDs: 1; Supplier 1: Newark; RoHS: Yes; Category: LEDs; Stock 1: 1791; Pricing 1: 1=0.55000, 25=0.37500, 50=0.31600, 100=0.25700, 250=0.25600, 500=0.25400, 1000=0.21500 (USD); Mount: Surface Mount; Package: 0805; Number of Pins: 2; Color: RED; Case Code (Metric): 2012; Case Code (Imperial): 0805; Lens Color: Red; Min Operating Temperature: -40°C; Max Operating Temperature: 85°C; Packaging: Tape and Reel; Package Quantity: 1; Illumination Color: Red; Test Current: 20mA; Reverse Voltage: 5V; Length: 2mm; Width: 1.25mm; Height: 1.1mm; RoHS Compliant: Yes; Lead Free: Lead Free; ComponentLink1URL: http://www.mouser.com/ds/2/423/CMD1721ver1-1064576.pdf?src-supplier=Mouser; ComponentLink1Description: http://www.mouser.com/ds/2/423/CMD1721ver1-1064576.pdf?src-supplier=Mouser; ComponentLink2URL: https://www.alliedelec.com/m/d/ea8f758becbd32522d2612194452bcae.pdf?src-supplier=Allied+Electronics; ComponentLink2Description: https://www.alliedelec.com/m/d/ea8f758becbd32522d2612194452bcae.pdf?src-supplier=Allied+Electronics; ComponentLink3URL: http://www.onlinecomponents.com/productFiles/mf-CM/2cmd17-21seriessmtleds0805packagesize.pdf?src-supplier=Onlinecomponents.com; ComponentLink3Description: http://www.onlinecomponents.com/productFiles/mf-CM/2cmd17-21seriessmtleds0805packagesize.pdf?src-supplier=Onlinecomponents.com; ComponentLink4URL: https://vcclite.com/wp-content/uploads/wpallimport/files/files/CMD1721Seriesver3.pdf?src-supplier=Digi-Key; ComponentLink4Description: https://vcclite.com/wp-content/uploads/wpallimport/files/files/CMD1721Seriesver3.pdf?src-supplier=Digi-Key; Supplier Part Number 1: 45X6246
footprint FP-LTST-C171GKT-MFG-RED
pins: 1 C, 2 A

## CMP-2000-00337-2
designator R?, comment Power Rating: 0.1W  Resistance: 22kΩ  (hidden comment: ERJ-3EKF2202V)
Chip Resistor, 22 KOhm, +/- 1%, 0.1 W, -55 to 155 degC, 0603 (1608 Metric), RoHS, Tape and Reel; Case\Package: 0603; Voltage Rating: 50 V; ComponentLink2Description: Datasheet; PackageDescription: 2-Pin Surface Mount Device, Body 1.6 x 0.85 mm; Length: 1.6 mm; Package Quantity: 200; ComponentLink1Description: Manufacturer URL; Width: 0.8 mm; Tolerance: 1%; ComponentLink2URL: http://industrial.panasonic.com/cdbs/www-data/pdf/RDA0000/AOA0000C86.pdf; Case Code (Metric): 1608; Case Code (Imperial): 0603; PackageReference: 0603; DatasheetVersion: Apr-15; Packaging: Tape and Reel; Max Operating Temperature: 155 degC; Height: 0.45 mm; ComponentLink1URL: http://www.panasonic.com/; Min Operating Temperature: -55 degC; RoHSCompliant: true
footprint FP-MCR03-IPC_B
pins: 1, 2

## CMP-2000-05417-1
designator J?, comment 640456-2  Manufacturer Print: TE
Male Header, Pitch 2.54 mm, 1 x 2 Position, Height 10.49 mm, Tail Length 3.556 mm, -55 to 105 degC, RoHS, Bulk; Manufacturer: TE Connectivity; Standards: RoHSCompliant,ELVCompliant,UL94V-0; Material, Housing: Polyester; Agency Approvals: CSA,UL; Brand/Series: MTA-100Series; Contact Centerline Spacing: 0.100 / in.; Material, Contact: CopperAlloy; Current, Rating: 5 / A; Color, Housing: White; Contact Termination Area Plating: Tin; Special Features: Pinstrip; Number of Positions: 2; Pin Spacing: 0.1 / "; Temperature, Operating: -55to+105 / degC; Angle: Straight; Mount Angle: Vertical; Connector Type: MTA-100; Primary Type: InterconnectSystem; Voltage, Rating: 250 / V; Mounting Hole Size: 0.04 / "; Number of Rows: 1; Termination: Solder; Length, Terminal Post: 0.14 / in.; Manufacturer URL: http://www.te.com/; Color: White; Size, Post: 0.025 / in.; Contact Shape: Square; Mounting Type: PCMount; Datasheet URL: https://datasheet.ciiva.com/11746/0900766b80eb7fdd-11746365.pdf; Type: PCBPlug; Datasheet Version: Rev. W, 06/2004; Number of Contacts: 2; Flammability Rating: UL94V-0; Contact Plating: Tin; Length, Pin: 0.14 / "; Contact Mating Area Plating: Tin; Length, Overall: 0.2 / "
footprint TECO-640456-2_V (HDR, 2-Leads, Body 5.715x5.08mm, Pitch 2.54mm)
pins: 1, 2

## CMP-03211-002966-1
designator R?, comment Resistance: 220kΩ  Power Rating: 2W  (hidden comment: CRGP2512F220K)
CRGP2512 220KΩ 2W ±100ppm/°C 1% 500V; Manufacturer: TE; Tolerance: 0.01; Device Class L1: Passive Components; RoHS: TRUE; ComponentLink2Description: Datasheet; Value: 220KΩ; Series: CRGP; ComponentLink2URL: https://www.mouser.ca/datasheet/2/418/NG_DS_9-1773463-9_A-1358566.pdf; Octopart: https://octopart.com/crgp2512f220k-te+connectivity-91019045; Height: 0.65mm; Composition: Thick Film; Ambient Temperature Range High: +70°C; Temperature Range High: +155°C; Automotive: No; Category: Res; Temperature Coefficient: ±100ppm/°C; Voltage Rating: 500V; Lead Free: Yes; Device Class L3: Chip SMD Resistors; Ipc Land Pattern Name: RESC635320X55; Temperature Range Low: -55°C; Manufacturer Part Number: CRGP2512F220K; Temperature: -55°C to +155°C; Device Class L2: Resistors; Package: CRGP2512
footprint FP-CRGP2512-IPC_C
footprint FP-CRGP2512-IPC_A
footprint FP-CRGP2512-IPC_B
pins: 1, 2

## CMP-04895-000282-1
designator U?, comment ALM2402FQPWPRQ1
IC OPAMP GP 2 CIRCUIT 14HTSSOP
footprint FP-PWP0014H-IPC_A
footprint FP-PWP0014H-MFG
footprint FP-PWP0014H-IPC_B
footprint FP-PWP0014H-IPC_C
pins: 1 IN(1)- (hiz), 2 IN(1)+ (hiz), 3 OTF/SH DN (io), 4 IN(2)+ (hiz), 5 IN(2)- (hiz), 6 GND (power), 7 NC, 8 NC, 9 OUT(2), 10 VS O(2) (power), 11 VS (power), 12 VS O(1) (power), 13 OUT(1), 14 GND (power), 15 Thermal Pad (power)

## CMP-04896-000023-1
designator U?, comment TLV3502AID  Manufacturer Print: TEXAS INSTRUMENTS
IC COMPARATOR R-R HI-SPD 8-SOIC; Nominal Supply Current: 3.2mA; Standoff Height: 0.11mm; Max Supply Voltage: 5.5V; Min Supply Voltage: 2.2V; Input Bias Current: 0.000002uA; Number Of Channels: 2; Max Junction Temp: +150°C; Input Offset Voltage: 1mV; Automotive: No; Device Class L1: Integrated Circuits (ICs); Lead Free: Yes; Octopart: https://octopart.com/tlv3502aid-texas+instruments-428400; Temperature Range Low: -40°C; ComponentLink2Description: Datasheet; ComponentLink2URL: http://www.ti.com/lit/ds/symlink/tlv3502.pdf; Ambient Temperature Range Low: -40°C; Height: 1.75mm; Manufacturer: TEXAS INSTRUMENTS; Digikey Description: IC COMPARATOR R-R HI-SPD 8-SOIC; Ambient Temperature Range High: +125°C; RoHS: TRUE; Device Class L3: Comparators; Device Class L2: Linear ICs; Temperature: -40°C to +125°C; Manufacturer Part Number: TLV3502AID; Temperature Range High: +125°C; Package: 8-SOIC; Category: IC; Mouser Description: TLV3502AID Texas Instruments, Dual Comparator, Push-Pull O/P, 3 V, 5 V 8-Pin SOIC; Value: N/A
footprint FP-D0008A-IPC_B
footprint FP-D0008A-IPC_A
footprint FP-D0008A-IPC_C
footprint FP-D0008A-MFG
part A pins: 1 +IN A (hiz), 2 -IN A (hiz), 5 V- (power), 7 OUT A, 8 V+ (power)
part B pins: 3 +IN B (hiz), 4 -IN B (hiz), 6 OUT B
part A text: +; -
part B text: +; -

## CRCW06034K70FKTA
designator R?  Resistance: 4.7kΩ  Power Rating: 0.1W  (hidden comment: *)
Res Thick Film 0603 4.7K Ohm 1% 1/10W ±100ppm/°C Molded SMD SMD Paper T/R; Manufacturer: Vishay Dale; Manufacturer Part Number: CRCW06034K70FKTA; Voltage Rating: 75V; Max Power Dissipation: 100mW; Supplier 1: Digi-Key; RoHS: No; Category: Chip SMD Resistors; Pricing 1: 1=0.15000, 10=0.12900, 100=0.05040, 1000=0.02111, 2500=0.01936 (USD); Case/Package: 0603; Weight: 7.1E-05oz; Case Code (Metric): 1608; Case Code (Imperial): 0603; Contact Plating: Tin,Lead; Min Operating Temperature: -55°C; Max Operating Temperature: 155°C; Tolerance: 1%; Resistor Type: Thick Film; Package Quantity: 5000; Packaging: Tape and Reel; Number of Terminations: 2; Temperature Coefficient: 100ppm/°C; Voltage Rating (DC): 75V; Power Dissipation: 100mW; Features: Automotive AEC-Q200; Series: CRCW; Construction: Rectangular; Length: 1.55mm; Width: 0.033inch; Height: 0.02inch; Depth: 0.85mm; Radiation Hardening: No; Lead Free: Contains Lead; Military Standard: Not; RoHS Compliant: No; ComponentLink1URL: https://datasheet.ciiva.com/9071/dcrcw-9071351.pdf?src-supplier=Avnet; ComponentLink1Description: https://datasheet.ciiva.com/9071/dcrcw-9071351.pdf?src-supplier=Avnet; ComponentLink2URL: https://datasheet.ciiva.com/2565/dcrcw-2565426.pdf?src-supplier=Digi-Key; ComponentLink2Description: https://datasheet.ciiva.com/2565/dcrcw-2565426.pdf?src-supplier=Digi-Key; Supplier Part Number 1: 541-3004-6-ND
footprint FP-MCR03-IPC_B
pins: 1, 2

## CRCW08051K00JNTA
designator R?  Resistance: 1kΩ  Power Rating: 0.13W  (hidden comment: *)
Resistor, Thick Film Chip; 1 K Ohms; Case 0805; 0.125W; +/-5%; SMD; 200ppm/K; 150V; Manufacturer: Vishay Dale; Manufacturer Part Number: CRCW08051K00JNTA; Tolerance: 5%; Temperature Coefficient: 200ppm/°C; Max Power Dissipation: 125mW; Supplier 1: Avnet; RoHS: No; Category: Chip SMD Resistors; Stock 1: 20000; Pricing 1: 5000=0.03087, 10000=0.02988, 20000=0.02889, 30000=0.02790, 40000=0.02682, 50000=0.02556, 500000=0.02430 (USD); Case/Package: 0805; Case Code (Imperial): 0805; Case Code (Metric): 2012; Contact Plating: Tin,Lead; Weight: 0.000194oz; Min Operating Temperature: -55°C; Max Operating Temperature: 155°C; Packaging: Tape and Reel; Series: CRCW; Resistor Type: Thick Film; Package Quantity: 5000; Voltage Rating: 150V; Number of Terminations: 2; Voltage Rating (DC): 150V; Construction: Rectangular; Features: Automotive AEC-Q200; Power Dissipation: 125mW; Length: 2mm; Width: 1.25mm; Height: 0.02inch; Depth: 1.25mm; Radiation Hardening: No; RoHS Compliant: No; Lead Free: Contains Lead; Military Standard: Not; ComponentLink1URL: https://datasheet.ciiva.com/2565/dcrcw-2565721.pdf?src-supplier=Digi-Key; ComponentLink1Description: https://datasheet.ciiva.com/2565/dcrcw-2565721.pdf?src-supplier=Digi-Key; Supplier Part Number 1: CRCW08051K00JNTA
footprint RESC2013X50X30LL20T20 (Chip Resistor, 2-Leads, Body 2.00x1.25mm, IPC High Density)
footprint RESC2013X50X30ML20T20 (Chip Resistor, 2-Leads, Body 2.00x1.25mm, IPC Low Density)
footprint RESC2013X50X30NL20T20 (Chip Resistor, 2-Leads, Body 2.00x1.25mm, IPC Medium Density)
pins: 1, 2

## CRCW060320K0FKTA
designator R?  Resistance: 20kΩ  Power Rating: 0.1W  (hidden comment: *)
Res Thick Film 0603 20K Ohm 1% 1/10W ±100ppm/°C Molded SMD SMD Paper T/R; Manufacturer: Vishay Dale; Manufacturer Part Number: CRCW060320K0FKTA; Voltage Rating: 75V; Max Power Dissipation: 100mW; Supplier 1: Arrow Electronics; RoHS: No; Category: Chip SMD Resistors; Stock 1: 8; Pricing 1: 1=0.14090 (USD); Case/Package: 0603; Number of Pins: 2; Contact Plating: Tin,Lead; Weight: 7.1E-05oz; Case Code (Metric): 1608; Case Code (Imperial): 0603; Min Operating Temperature: -55°C; Max Operating Temperature: 155°C; Tolerance: 1%; Resistor Type: Thick Film; Temperature Coefficient: 100ppm/°C; Package Quantity: 5000; Packaging: Tape and Reel; Number of Terminations: 2; Termination: SMD/SMT; Power Dissipation: 100mW; Voltage Rating (DC): 75V; Features: Automotive AEC-Q200; Series: CRCW; Construction: Rectangular; Resistance Tolerance: 1%; Length: 1.55mm; Width: 0.033inch; Height: 0.02inch; Depth: 0.85mm; Radiation Hardening: No; Lead Free: Contains Lead; Military Standard: Not; RoHS Compliant: No; ComponentLink1URL: https://datasheet.ciiva.com/3883/dcrcw-3883254.pdf?src-supplier=Arrow+Electronics; ComponentLink1Description: https://datasheet.ciiva.com/3883/dcrcw-3883254.pdf?src-supplier=Arrow+Electronics; ComponentLink2URL: https://datasheet.ciiva.com/26933/getdatasheetpartid-28850-26933811.pdf?src-supplier=Verical; ComponentLink2Description: https://datasheet.ciiva.com/26933/getdatasheetpartid-28850-26933811.pdf?src-supplier=Verical; ComponentLink3URL: https://datasheet.ciiva.com/9033/dcrcw-9033436.pdf?src-supplier=Avnet; ComponentLink3Description: https://datasheet.ciiva.com/9033/dcrcw-9033436.pdf?src-supplier=Avnet; ComponentLink4URL: https://datasheet.ciiva.com/2565/dcrcw-2565123.pdf?src-supplier=Digi-Key; ComponentLink4Description: https://datasheet.ciiva.com/2565/dcrcw-2565123.pdf?src-supplier=Digi-Key; Supplier Part Number 1: CRCW060320K0FKTA
footprint FP-MCR03-IPC_B
pins: 1, 2